# EAGLE library part TL072 (library ic-analog)
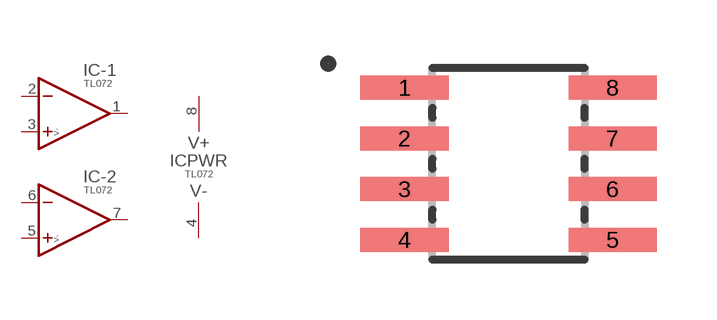
[diagram p2: symbol with the pads of SO-08; footprint SO-08]

Designator prefix IC; gates -1=OP-AMP -2=OP-AMP PWR=POWER

## TL072D  [SO-08]
1  -1:OUT  out
2  -1:-IN  in
3  -1:+IN  in
4  PWR:V-  pas
5  -2:+IN  in
6  -2:-IN  in
7  -2:OUT  out
8  PWR:V+  pas

## Footprint SO-08 (pad centres in mm)
Small Outline Narrow Plastic Gull Wing 150-mil body, package type SN
smd 2.2 x 0.6: 1 -2.6,1.905; 2 -2.6,0.635; 3 -2.6,-0.635; 4 -2.6,-1.905; 5 2.6,-1.905; 6 2.6,-0.635; 7 2.6,0.635; 8 2.6,1.905